# EAGLE library part OPA541AP (library 1A-meinLib)
OPA541PA, High Power Monolithic Operational Amplifier, max +-40V, peak 10A,gain 97dB, , BW 55kHz, Plastic Package
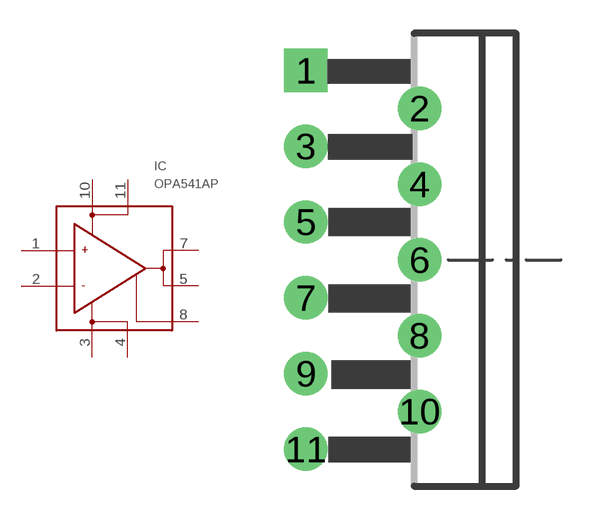
[diagram p246: symbol with the pads of TO220_R-PZFM-T11_V; footprint TO220_R-PZFM-T11_V]

Designator prefix IC

## OPA541AP  [TO220_R-PZFM-T11_V]
1  +IN  in
2  -IN  in
3  -VS-1  pas
4  -VS-2  pas
5  OUT-1  pas
7  OUT-2  out
8  CS  in
10  +VS-1  pas
11  +VS-2  pas

## Footprint TO220_R-PZFM-T11_V (pad centres in mm)
Plastic Flange-Mount, KV (R-PZFM-T11) für OPA541 High Power Monolitic Amplifier
drill 1.3 square: 1 0,0
drill 1.3 round: 2 5.1,-1.7; 3 0,-3.4; 4 5.1,-5.1; 5 0,-6.8; 6 5.1,-8.5; 7 0,-10.2; 8 5.1,-11.9; 9 0,-13.6; 10 5.1,-15.3; 11 0,-17